# EAGLE library part ATSAM3S4B/3B/2B_64PIN (library Taylor)
AT91SAM7S512/256/128/64/321 ARM7 Processor
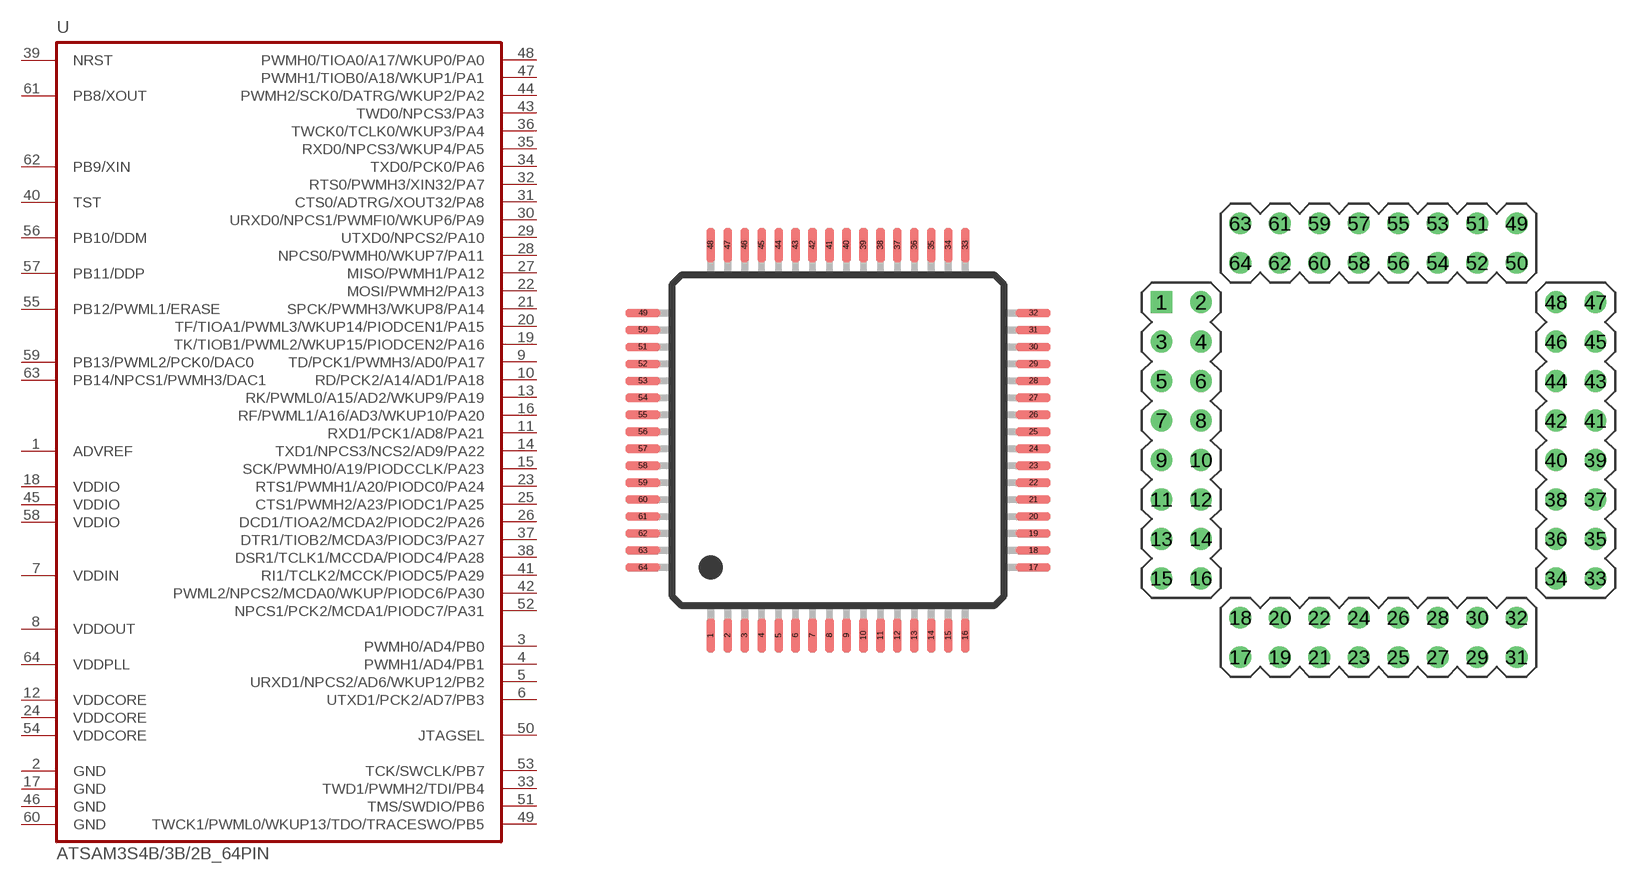
[diagram p14: symbol with the pads of LQFP64; footprints LQFP64, HEADER_DUALSQR64_35]

Designator prefix U

## ATSAM3S4B/3B/2B_64PIN-AU  [LQFP64]
1  ADVREF
2  GND  pwr
3  PWMH0/AD4/PB0
4  PWMH1/AD4/PB1
5  URXD1/NPCS2/AD6/WKUP12/PB2
6  UTXD1/PCK2/AD7/PB3
7  VDDIN  pwr
8  VDDOUT  pwr
9  TD/PCK1/PWMH3/AD0/PA17
10  RD/PCK2/A14/AD1/PA18
11  RXD1/PCK1/AD8/PA21
12  VDDCORE  pwr
13  RK/PWML0/A15/AD2/WKUP9/PA19
14  TXD1/NPCS3/NCS2/AD9/PA22
15  SCK/PWMH0/A19/PIODCCLK/PA23
16  RF/PWML1/A16/AD3/WKUP10/PA20
17  GND  pwr
18  VDDIO  pwr
19  TK/TIOB1/PWML2/WKUP15/PIODCEN2/PA16
20  TF/TIOA1/PWML3/WKUP14/PIODCEN1/PA15
21  SPCK/PWMH3/WKUP8/PA14
22  MOSI/PWMH2/PA13
23  RTS1/PWMH1/A20/PIODC0/PA24
24  VDDCORE  pwr
25  CTS1/PWMH2/A23/PIODC1/PA25
26  DCD1/TIOA2/MCDA2/PIODC2/PA26
27  MISO/PWMH1/PA12
28  NPCS0/PWMH0/WKUP7/PA11
29  UTXD0/NPCS2/PA10
30  URXD0/NPCS1/PWMFI0/WKUP6/PA9
31  CTS0/ADTRG/XOUT32/PA8
32  RTS0/PWMH3/XIN32/PA7
33  TWD1/PWMH2/TDI/PB4
34  TXD0/PCK0/PA6
35  RXD0/NPCS3/WKUP4/PA5
36  TWCK0/TCLK0/WKUP3/PA4
37  DTR1/TIOB2/MCDA3/PIODC3/PA27
38  DSR1/TCLK1/MCCDA/PIODC4/PA28
39  NRST
40  TST
41  RI1/TCLK2/MCCK/PIODC5/PA29
42  PWML2/NPCS2/MCDA0/WKUP/PIODC6/PA30
43  TWD0/NPCS3/PA3
44  PWMH2/SCK0/DATRG/WKUP2/PA2
45  VDDIO  pwr
46  GND  pwr
47  PWMH1/TIOB0/A18/WKUP1/PA1
48  PWMH0/TIOA0/A17/WKUP0/PA0
49  TWCK1/PWML0/WKUP13/TDO/TRACESWO/PB5
50  JTAGSEL
51  TMS/SWDIO/PB6
52  NPCS1/PCK2/MCDA1/PIODC7/PA31
53  TCK/SWCLK/PB7
54  VDDCORE  pwr
55  PB12/PWML1/ERASE
56  PB10/DDM
57  PB11/DDP
58  VDDIO  pwr
59  PB13/PWML2/PCK0/DAC0
60  GND  pwr
61  PB8/XOUT
62  PB9/XIN
63  PB14/NPCS1/PWMH3/DAC1
64  VDDPLL  pwr

## ATSAM3S4B/3B/2B_64PINSQUAREHEADER  [HEADER_DUALSQR64_35]
Pads as for LQFP64

## ATSAM3S4B/3B/2B_64PIN  [LQFP64_TESTHEADER]
Pads as for LQFP64

## Footprint LQFP64 (pad centres in mm)
LQFP64
smd 0.25 x 1: 1 -3.75,-5.75; 2 -3.25,-5.75; 3 -2.75,-5.75; 4 -2.25,-5.75; 5 -1.75,-5.75; 6 -1.25,-5.75; 7 -0.75,-5.75; 8 -0.25,-5.75; 9 0.25,-5.75; 10 0.75,-5.75; 11 1.25,-5.75; 12 1.75,-5.75; 13 2.25,-5.75; 14 2.75,-5.75; 15 3.25,-5.75; 16 3.75,-5.75; 33 3.75,5.75; 34 3.25,5.75; 35 2.75,5.75; 36 2.25,5.75; 37 1.75,5.75; 38 1.25,5.75; 39 0.75,5.75; 40 0.25,5.75; 41 -0.25,5.75; 42 -0.75,5.75; 43 -1.25,5.75; 44 -1.75,5.75; 45 -2.25,5.75; 46 -2.75,5.75; 47 -3.25,5.75; 48 -3.75,5.75
smd 1 x 0.25: 17 5.75,-3.75; 18 5.75,-3.25; 19 5.75,-2.75; 20 5.75,-2.25; 21 5.75,-1.75; 22 5.75,-1.25; 23 5.75,-0.75; 24 5.75,-0.25; 25 5.75,0.25; 26 5.75,0.75; 27 5.75,1.25; 28 5.75,1.75; 29 5.75,2.25; 30 5.75,2.75; 31 5.75,3.25; 32 5.75,3.75; 49 -5.75,3.75; 50 -5.75,3.25; 51 -5.75,2.75; 52 -5.75,2.25; 53 -5.75,1.75; 54 -5.75,1.25; 55 -5.75,0.75; 56 -5.75,0.25; 57 -5.75,-0.25; 58 -5.75,-0.75; 59 -5.75,-1.25; 60 -5.75,-1.75; 61 -5.75,-2.25; 62 -5.75,-2.75; 63 -5.75,-3.25; 64 -5.75,-3.75

## Footprint HEADER_DUALSQR64_35 (pad centres in mm)
drill 0.9 square: 1 -13.97,8.89
drill 0.9: 2 -11.43,8.89; 3 -13.97,6.35; 4 -11.43,6.35; 5 -13.97,3.81; 6 -11.43,3.81; 7 -13.97,1.27; 8 -11.43,1.27; 9 -13.97,-1.27; 10 -11.43,-1.27; 11 -13.97,-3.81; 12 -11.43,-3.81; 13 -13.97,-6.35; 14 -11.43,-6.35; 15 -13.97,-8.89; 16 -11.43,-8.89; 17 -8.89,-13.97; 18 -8.89,-11.43; 19 -6.35,-13.97; 20 -6.35,-11.43; 21 -3.81,-13.97; 22 -3.81,-11.43; 23 -1.27,-13.97; 24 -1.27,-11.43; 25 1.27,-13.97; 26 1.27,-11.43; 27 3.81,-13.97; 28 3.81,-11.43; 29 6.35,-13.97; 30 6.35,-11.43; 31 8.89,-13.97; 32 8.89,-11.43; 33 13.97,-8.89; 34 11.43,-8.89; 35 13.97,-6.35; 36 11.43,-6.35; 37 13.97,-3.81; 38 11.43,-3.81; 39 13.97,-1.27; 40 11.43,-1.27; 41 13.97,1.27; 42 11.43,1.27; 43 13.97,3.81; 44 11.43,3.81; 45 13.97,6.35; 46 11.43,6.35; 47 13.97,8.89; 48 11.43,8.89; 49 8.89,13.97; 50 8.89,11.43; 51 6.35,13.97; 52 6.35,11.43; 53 3.81,13.97; 54 3.81,11.43; 55 1.27,13.97; 56 1.27,11.43; 57 -1.27,13.97; 58 -1.27,11.43; 59 -3.81,13.97; 60 -3.81,11.43; 61 -6.35,13.97; 62 -6.35,11.43; 63 -8.89,13.97; 64 -8.89,11.43

## Footprint LQFP64_TESTHEADER (pad centres in mm)
MicroMaTch 12 8-215464-2 / 1-215464-2 Drawing Number C-215464 DDEController.pdf
drill 0.813: 1 -9.525,-13.97; 2 -8.255,-11.43; 3 -6.985,-13.97; 4 -5.715,-11.43; 5 -4.445,-13.97; 6 -3.175,-11.43; 7 -1.905,-13.97; 8 -0.635,-11.43; 9 0.635,-13.97; 10 1.905,-11.43; 11 3.175,-13.97; 12 4.445,-11.43; 13 5.715,-13.97; 14 6.985,-11.43; 15 8.255,-13.97; 16 9.525,-11.43; 17 13.97,-9.525; 18 11.43,-8.255; 19 13.97,-6.985; 20 11.43,-5.715; 21 13.97,-4.445; 22 11.43,-3.175; 23 13.97,-1.905; 24 11.43,-0.635; 25 13.97,0.635; 26 11.43,1.905; 27 13.97,3.175; 28 11.43,4.445; 29 13.97,5.715; 30 11.43,6.985; 31 13.97,8.255; 32 11.43,9.525; 33 9.525,13.97; 34 8.255,11.43; 35 6.985,13.97; 36 5.715,11.43; 37 4.445,13.97; 38 3.175,11.43; 39 1.905,13.97; 40 0.635,11.43; 41 -0.635,13.97; 42 -1.905,11.43; 43 -3.175,13.97; 44 -4.445,11.43; 45 -5.715,13.97; 46 -6.985,11.43; 47 -8.255,13.97; 48 -9.525,11.43; 49 -13.97,9.525; 50 -11.43,8.255; 51 -13.97,6.985; 52 -11.43,5.715; 53 -13.97,4.445; 54 -11.43,3.175; 55 -13.97,1.905; 56 -11.43,0.635; 57 -13.97,-0.635; 58 -11.43,-1.905; 59 -13.97,-3.175; 60 -11.43,-4.445; 61 -13.97,-5.715; 62 -11.43,-6.985; 63 -13.97,-8.255; 64 -11.43,-9.525